# EAGLE library part C8051F330 (library xmaker)
Silicon Labs 8-bit MCU C8051F33x Series.
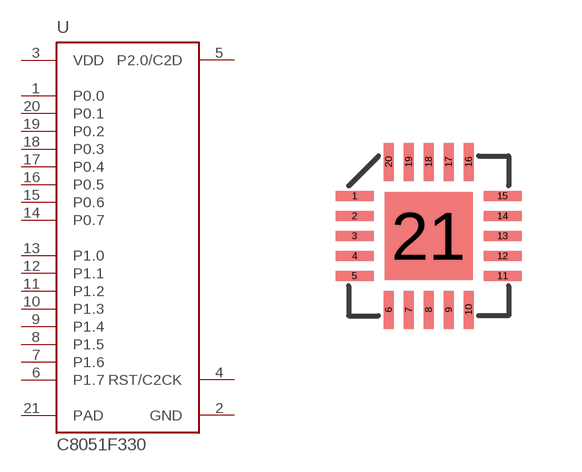
[diagram p1: symbol with the pads of QFN20-4.4-0.5; footprint QFN20-4.4-0.5]

Designator prefix U

## C8051F330GM  [QFN20-4.4-0.5]
1  P0.0
2  GND
3  VDD
4  RST/C2CK
5  P2.0/C2D
6  P1.7
7  P1.6
8  P1.5
9  P1.4
10  P1.3
11  P1.2
12  P1.1
13  P1.0
14  P0.7
15  P0.6
16  P0.5
17  P0.4
18  P0.3
19  P0.2
20  P0.1
21  PAD

## Footprint QFN20-4.4-0.5 (pad centres in mm)
Quad Flat No Lead Package 4mm x 4mm, 0.5mm pitch
smd 0.95 x 0.25: 1 -1.85,1; 2 -1.85,0.5; 3 -1.85,0; 4 -1.85,-0.5; 5 -1.85,-1; 11 1.85,-1; 12 1.85,-0.5; 13 1.85,0; 14 1.85,0.5; 15 1.85,1
smd 0.25 x 0.95: 6 -1,-1.85; 7 -0.5,-1.85; 8 0,-1.85; 9 0.5,-1.85; 10 1,-1.85; 16 1,1.85; 17 0.5,1.85; 18 0,1.85; 19 -0.5,1.85; 20 -1,1.85
smd 2.2 x 2.2: 21 0,0